# EAGLE library part ESDALC6V1P6 (library my-STMicroelectronics)
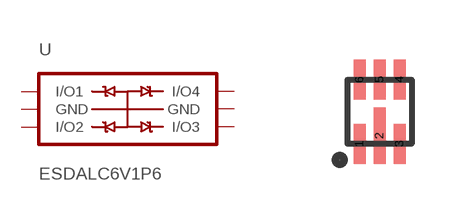
[diagram p4: symbol with the pads of SOT-666IP; footprint SOT-666IP]

Designator prefix -

## ESDALC6V1P6  [SOT-666IP]
1  I/O1
2  GND
3  I/O2
4  I/O3
5  GND
6  I/O4

## Footprint SOT-666IP (pad centres in mm)
smd 0.3 x 0.99: 1 -0.5,-0.805; 3 0.5,-0.805; 4 0.5,0.805; 5 0,0.805; 6 -0.5,0.805
smd 0.3 x 1.4: 2 0,-0.6